# EAGLE library part 24POS(12X2)3.5MM_SCREW_BLOCK (library DAQTEST)
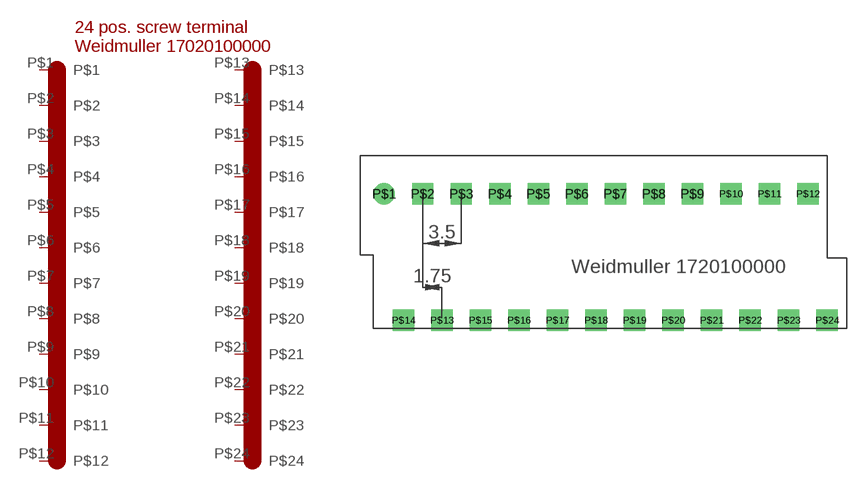
[diagram p10: symbol with the pads of SCREW_TERMINAL_24POS_3.5MM_PITCH; footprint SCREW_TERMINAL_24POS_3.5MM_PITCH]

Designator prefix -

## 24POS(12X2)3.5MM_SCREW_BLOCK  [SCREW_TERMINAL_24POS_3.5MM_PITCH]
P$1  P$1
P$2  P$2
P$3  P$3
P$4  P$4
P$5  P$5
P$6  P$6
P$7  P$7
P$8  P$8
P$9  P$9
P$10  P$10
P$11  P$11
P$12  P$12
P$13  P$13
P$14  P$14
P$15  P$15
P$16  P$16
P$17  P$17
P$18  P$18
P$19  P$19
P$20  P$20
P$21  P$21
P$22  P$22
P$23  P$23
P$24  P$24

## Footprint SCREW_TERMINAL_24POS_3.5MM_PITCH (pad centres in mm)
drill 1.3: P$1 -14,0
drill 1.3 square: P$2 -10.5,0; P$3 -7,0; P$4 -3.5,0; P$5 0,0; P$6 3.5,0; P$7 7,0; P$8 10.5,0; P$9 14,0; P$10 17.5,0; P$11 21,0; P$12 24.5,0; P$13 -8.75,-11.5; P$14 -12.25,-11.5; P$15 -5.25,-11.5; P$16 -1.75,-11.5; P$17 1.75,-11.5; P$18 5.25,-11.5; P$19 8.75,-11.5; P$20 12.25,-11.5; P$21 15.75,-11.5; P$22 19.25,-11.5; P$23 22.75,-11.5; P$24 26.25,-11.5